# Altium footprint library Inductors.PcbLib: 50 footprints (part 3 of 4)
Each footprint in its own frame and in the unit in brackets; x right, y up, seen from the top. Pads: shape width x height; smd on the part's side, far side on the other; paste and mask are expansions set on the pad; w line width, h text height; cw(c..) or ccw(c..) is an arc to the next point about the centre after c.
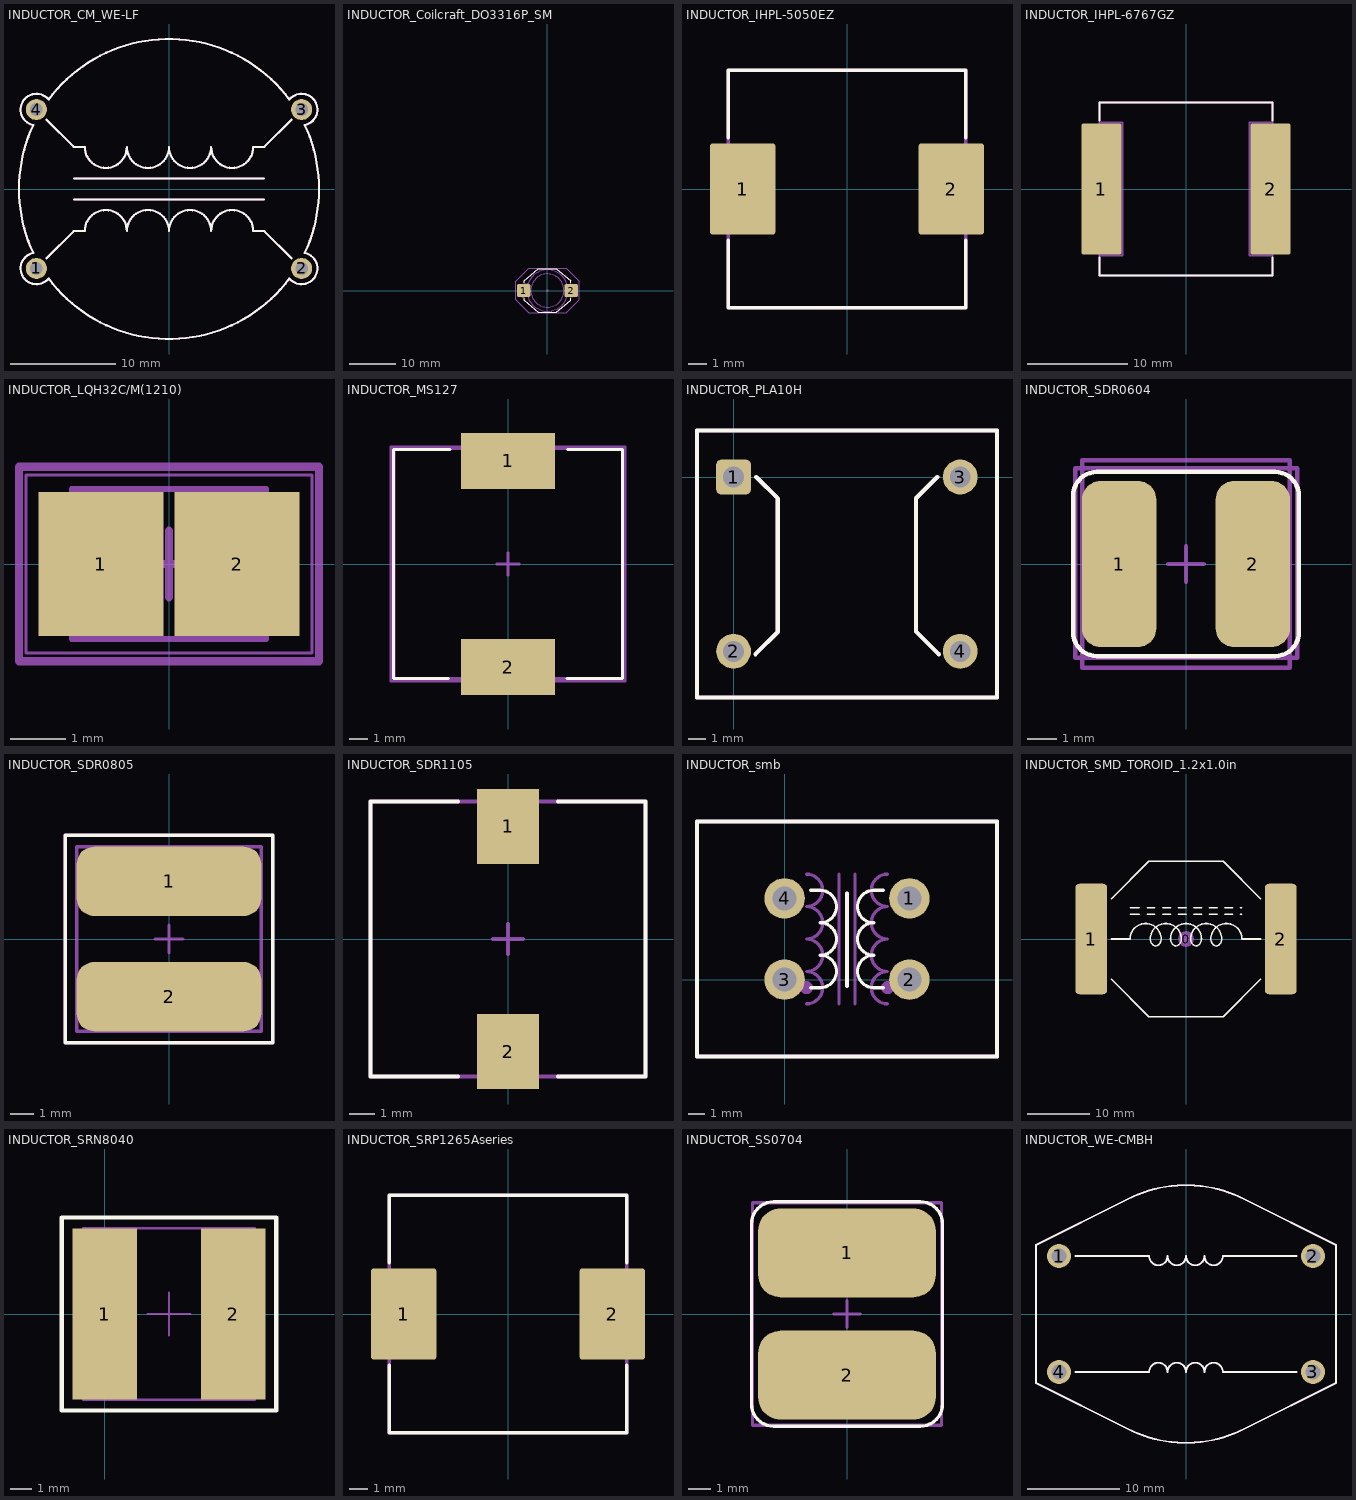
[diagram p2: the footprints below, top view; thin cyan lines are the x and y axes]

## INDUCTOR_CM_WE-LF [mm]
pads (4):
  round 2 hole 1.2: 1(-12.6,-7.55) 2(12.6,-7.55) 3(12.6,7.55) 4(-12.6,7.55)
Top Overlay:
  lines w0.2: -12.904,6.081 cw(c-12.6,7.55) -11.439,8.499 ; -12.891,-6.078 ccw(c-12.6,-7.55) -11.439,-8.499 ; -12.89,6.075 ccw(c0,0) -12.889,-6.078 ; -11.65,-6.6 -9.05,-4 -8,-4 cw(c-6,-4) -4,-4 cw(c-2,-4) 0,-4 cw(c2,-4) 4,-4 cw(c6,-4) 8,-4 9.05,-4 11.65,-6.6 ; -11.65,6.6 -9.05,4 -8,4 ccw(c-6,4) -4,4 ccw(c-2,4) 0,4 ccw(c2,4) 4,4 ccw(c6,4) 8,4 9.05,4 11.65,6.6 ; -11.437,-8.5 ccw(c0,0) 11.437,-8.5 ; -11.437,8.5 cw(c0,0) 11.439,8.498 ; -9,-1 9,-1 ; -9,1 9,1 ; 11.436,8.496 cw(c12.6,7.55) 12.884,6.077 ; 11.439,-8.499 ccw(c12.6,-7.55) 12.904,-6.081 ; 12.888,6.079 cw(c0,0) 12.89,-6.075
Mechanical 8:
  lines w0.2: -12.904,6.081 cw(c-12.6,7.55) -11.439,8.499 ; -12.891,-6.078 ccw(c-12.6,-7.55) -11.439,-8.499 ; -12.89,6.075 ccw(c0,0) -12.889,-6.078 ; -11.65,-6.6 -9.05,-4 -8,-4 cw(c-6,-4) -4,-4 cw(c-2,-4) 0,-4 cw(c2,-4) 4,-4 cw(c6,-4) 8,-4 9.05,-4 11.65,-6.6 ; -11.65,6.6 -9.05,4 -8,4 ccw(c-6,4) -4,4 ccw(c-2,4) 0,4 ccw(c2,4) 4,4 ccw(c6,4) 8,4 9.05,4 11.65,6.6 ; -11.437,-8.5 ccw(c0,0) 11.437,-8.5 ; -11.437,8.5 cw(c0,0) 11.439,8.498 ; -9,-1 9,-1 ; -9,1 9,1 ; 11.436,8.496 cw(c12.6,7.55) 12.884,6.077 ; 11.439,-8.499 ccw(c12.6,-7.55) 12.904,-6.081 ; 12.888,6.079 cw(c0,0) 12.89,-6.075
  text ".Designator" at -5,7 h5
3D body "commode_WE-LF_682LH.stp": height 17.1, standoff -2.9, extent -14.25,-14.25 14.25,14.25

## INDUCTOR_Coilcraft_DO3316P_SM [mil] "Wire-wound Power Inductor, 2-Leads, Body 12.95x9.4mm"
height 205
pads (3):
  round 20 on Mech15: 0(0,0)
  rrect25% 115x110 smd: 1(-202.5,0) 2(202.5,0)
Top Overlay:
  lines w6: -200,-65 -200,-82.84 -76.63,-185 76.63,-185 200,-82.84 200,-65 ; -200,65 -200,82.84 -76.63,185 76.63,185 200,82.84 200,65
Mechanical 13:
  drawing of 272 lines, arcs and shapes, not listed
Mechanical 15:
  lines w3: -270,-80 -270,80 -160,190 160,190 270,80 270,-80 160,-190 -160,-190 -270,-80
3D body "Pulse Inductor RR.STEP": height 172.5, standoff 0, extent -255.38,-185 255.2,185

## INDUCTOR_IHPL-5050EZ [mm]
pads (2):
  rrect10% 3.6x5 smd: 1(-5.7,0) 2(5.7,0)
Top Overlay:
  lines w0.2: -6.5,-2.8 -6.5,-6.5 6.5,-6.5 6.5,-2.8 ; -6.5,2.8 -6.5,6.5 6.5,6.5 6.5,2.8
Mechanical 8:
  lines w0.2: -6.5,-6.5 -6.5,6.5 6.5,6.5 6.5,-6.5 -6.5,-6.5
  text ".Designator" at 1.2,-5.65 h6
3D body: height 5, standoff 0.01, extent -6.5,-6.5 6.5,6.5

## INDUCTOR_IHPL-6767GZ [mm]
pads (2):
  rrect10% 4x13 smd: 1(-8.4,0) 2(8.4,0)
Top Overlay:
  lines w0.2: -8.6,-6.8 -8.6,-8.6 8.6,-8.6 8.6,-6.8 ; -8.6,6.8 -8.6,8.6 8.6,8.6 8.6,6.8
Mechanical 8:
  lines w0.2: -8.6,-6.6 -6.3,-6.6 -6.3,6.6 -8.6,6.6 ; 8.6,-6.6 6.3,-6.6 6.3,6.6 8.6,6.6 ; -8.6,-8.6 -8.6,8.6 8.6,8.6 8.6,-8.6 -8.6,-8.6
  text ".Designator" at -3.55,-0.95 h3.5
3D body: height 7, standoff 0.01, extent -8.6,-8.6 8.6,8.6

## INDUCTOR_LQH32C/M(1210) [mm] "LQH32C/M Series 1210 Case"
height 2.2
pads (2):
  rect 2.25x2.6 smd: 1(-1.225,0) 2(1.225,0)
Top Assembly:
  lines w0.1: -1.75,-1.35 -1.75,1.35 1.75,1.35 1.75,-1.35 -1.75,-1.35
Top Courtyard:
  lines w0.05: -2.575,-1.6 -2.575,1.6 2.575,1.6 2.575,-1.6 -2.575,-1.6
  lines w0.1: -0.5,0 0.5,0 ; 0,-0.5 0,0.5
Mechanical 15:
  lines w0.15: -0.6,0 0,0 ; 0,-0.6 0,0 ; 0,0.6 0,0 ; 0.6,0 0,0 ; -2.7,-1.75 2.7,-1.75 2.7,1.75 -2.7,1.75 -2.7,-1.75
3D body "User Library-LQH32PN_sw.STEP": height 1.55, standoff 0, extent -1.6,-1.25 1.6,1.25

## INDUCTOR_MS127 [mm]
height 7
pads (2):
  rect 5x3 smd: 1(0,5.5) 2(0,-5.5)
Top Overlay:
  lines w0.15: -3.175,-6.1 -6.1,-6.1 -6.1,6.1 -3.1,6.1 ; 3.15,-6.1 6.1,-6.1 6.1,6.1 3.175,6.1
Mechanical 15:
  lines w0.15: -0.6,0 0,0 ; 0,-0.6 0,0 ; 0,0.6 0,0 ; 0.6,0 0,0 ; -6.25,-6.25 -6.25,6.25 6.25,6.25 6.25,-6.25 -6.25,-6.25
Mechanical 29:
  lines w0.15: -6.075,-6.1 -6.075,6.15 6.1,6.15 6.1,-6.1 -6.075,-6.1
3D body "User Library-Inductor SRR1280 Series.STEP": height 7.51, standoff 0, extent -6.1,-6.2 6.1,6

## INDUCTOR_PLA10H [mm]
pads (4):
  rrect30% 2x2 hole 1.2: 1(0,0)
  round 2 hole 1.2: 2(0,-10) 3(13,0) 4(13,-10)
Top Overlay:
  lines w0.25: 1.26,-10.16 2.54,-8.88 2.54,-1.24 1.3,0 ; 11.68,0 10.46,-1.22 10.46,-8.86 11.76,-10.16 ; -2.1,-12.65 15.11,-12.65 15.11,2.67 -2.1,2.67 -2.1,-12.65
Mechanical 8:
  lines w0.25: 1.26,-10.16 2.54,-8.88 2.54,-1.24 1.3,0 ; 11.68,0 10.46,-1.22 10.46,-8.86 11.76,-10.16 ; -2.1,-12.65 -2.1,2.67 15.11,2.67 15.11,-12.65 -2.1,-12.65
  text ".Designator" at 7.2,-11.05 h3.5
3D body "PLA10.STEP": height 16.3, standoff -3.3, extent -1.885,-12.5 14.907,2.5

## INDUCTOR_SDR0604 [mm]
pads (2):
  rrect50% 2.5x5.6 smd: 1(-2.25,0) 2(2.25,0)
Top Overlay:
  lines w0.15: -3.8,-2.3 ccw(c-3,-2.3) -3,-3.1 3,-3.1 ccw(c3,-2.3) 3.8,-2.3 3.8,2.3 ccw(c3,2.3) 3,3.1 -3,3.1 ccw(c-3,2.3) -3.8,2.3 -3.8,-2.3
Mechanical 15:
  lines w0.15: -0.6,0 0,0 ; 0,-0.6 0,0 ; 0,0.6 0,0 ; 0.6,0 0,0 ; -3.5,-3.5 -3.5,3.5 3.5,3.5 3.5,-3.5 -3.5,-3.5
Mechanical 29:
  lines w0.15: -3.725,-3.15 -3.725,3.225 3.75,3.225 3.75,-3.15 -3.725,-3.15
3D body "User Library-SDR0604.STEP": height 4.55, standoff 0, extent -2.729,-2.825 2.779,2.775

## INDUCTOR_SDR0805 [mm]
height 5.5
pads (2):
  rrect50% 8x3 smd: 1(0,2.5) 2(0,-2.5)
Top Overlay:
  lines w0.15: -4.5,-4.5 4.5,-4.5 4.5,4.5 -4.5,4.5 -4.5,-4.5
Mechanical 15:
  lines w0.15: -0.6,0 0,0 ; 0,-0.6 0,0 ; 0,0.6 0,0 ; 0.6,0 0,0 ; -4.5,-4.5 -4.5,4.5 4.5,4.5 4.5,-4.5 -4.5,-4.5
Mechanical 29:
  lines w0.15: -4,-4 4,-4 4,4 -4,4 -4,-4
3D body "69564.stp": height 5.3, standoff 0, extent -3.9,-3.9 3.9,3.9

## INDUCTOR_SDR1105 [mm]
pads (2):
  rect 2.5x3 smd: 1(0,4.5) 2(0,-4.5)
Top Overlay:
  lines w0.15: -2,-5.5 -5.5,-5.5 -5.5,5.5 -2,5.5 ; 2,-5.5 5.5,-5.5 5.5,5.5 2,5.5
Mechanical 15:
  lines w0.15: -0.6,0 0,0 ; 0,-0.6 0,0 ; 0,0.6 0,0 ; 0.6,0 0,0 ; -5.5,-5.5 -5.5,5.5 5.5,5.5 5.5,-5.5 -5.5,-5.5
Mechanical 29:
  lines w0.15: -5.5,-5.5 -5.5,5.5 5.5,5.5 5.5,-5.5 -5.5,-5.5
3D body: height 1.5, standoff 0.5, extent -5,-4.998 5,4.999
3D body: height 5.3, standoff 0.5, extent -5,-4.998 5,4.999

## INDUCTOR_smb [mm]
pads (4):
  round 2.5 hole 1.5: 1(7.7,5) 2(7.7,0) 3(0,0) 4(0,5)
Top Overlay:
  lines w0.2: 1.6,-0.5 2.2,-0.5 ccw(c2.2,0.5) 2.2,1.5 ccw(c2.2,2.5) 2.2,3.5 ccw(c2.2,4.5) 2.2,5.5 1.6,5.5 ; 6.1,-0.5 5.5,-0.5 cw(c5.5,0.5) 5.5,1.5 cw(c5.5,2.5) 5.5,3.5 cw(c5.5,4.5) 5.5,5.5 6.1,5.5
  lines w0.254: 3.85,-0.4 3.85,5.3 ; -5.4,-4.75 13.1,-4.75 13.1,9.75 -5.4,9.75 -5.4,-4.75
Mechanical 8:
  circle w0.4: c1.35,-0.5 r0.2
  circle w0.4: c6.35,-0.5 r0.2
  lines w0.2: 1.35,-1.5 ccw(c1.35,-0.5) 1.35,0.5 ccw(c1.35,1.5) 1.35,2.5 ccw(c1.35,3.5) 1.35,4.5 ccw(c1.35,5.5) 1.35,6.5 ; 3.35,-1.5 3.35,6.5 ; 4.35,-1.5 4.35,6.5 ; 6.35,-1.5 cw(c6.35,-0.5) 6.35,0.5 cw(c6.35,1.5) 6.35,2.5 cw(c6.35,3.5) 6.35,4.5 cw(c6.35,5.5) 6.35,6.5
  lines w0.254: -5.4,-4.75 -5.4,9.75 13.1,9.75 13.1,-4.75 -5.4,-4.75
  text ".Designator" at 0.85,7.2 h4
3D body "commode_WE7448225007.stp": height 20, standoff -3.4, extent -4.002,-4 11.718,9

## INDUCTOR_SMD_TOROID_1.2x1.0in [mm] "Inductor, Toroid, 30.5mm L x 25.4mm W x 13.5mm T"
height 13.5
pads (3):
  round 2.54 on Mech15: 0(0,0)
  rrect25% 5.1x17.8 smd: 1(-15.25,0) 2(15.25,0)
Top Overlay:
  lines w0.254: -12,-6.5 -6,-12.5 6,-12.5 12,-6.5 ; -12,0 -9,0 cw(c-6.5,0) -4,0 cw(c-5.25,0) -4.691,-1.118 cw(c-4.875,0) -5.059,-1.118 cw(c-4.5,0) -5.75,0 cw(c-3.25,0) -0.75,0 cw(c-2,0) -1.441,-1.118 cw(c-1.625,0) -1.809,-1.118 cw(c-1.25,0) -2.5,0 cw(c0,0) 2.5,0 cw(c1.25,0) 1.809,-1.118 cw(c1.625,0) 1.441,-1.118 cw(c2,0) 0.75,0 cw(c3.25,0) 5.75,0 cw(c4.5,0) 5.059,-1.118 cw(c4.875,0) 4.691,-1.118 cw(c5.25,0) 4,0 cw(c6.5,0) 9,0 12,0 ; -12,6.5 -6,12.5 6,12.5 12,6.5 ; -9,4 -7.5,4 ; -9,5 -7.5,5 ; -6.25,4 -5,4 ; -6.25,5 -5,5 ; -3.75,4 -2.5,4 ; -3.75,5 -2.5,5 ; -1.25,4 0,4 ; -1.25,5 0,5 ; 1.25,4 2.5,4 ; 1.25,5 2.5,5 ; 3.75,4 5,4 ; 3.75,5 5,5 ; 6.25,4 7.5,4 ; 6.25,5 7.5,5 ; 8.75,4 9,4 ; 8.75,5 9,5
3D body: height 3.5, standoff 1.5, extent -17,-12.5 17,12.5
3D body: height 12, standoff 5, extent -10,-10 10,10

## INDUCTOR_SRN8040 [mm]
pads (2):
  rect 3x8 smd: 1(0,0) 2(6,0)
Top Overlay:
  lines w0.2: -2,-4.5 8,-4.5 8,4.5 -2,4.5 -2,-4.5
Mechanical 13:
  lines w0.1: -1.009,-4 7.009,-4 7.009,4 -1.009,4 -1.009,-4
Mechanical 15:
  lines w0.1: 2,0 4,0 ; 3,-1 3,1 ; -2,-4.5 8,-4.5 8,4.5 -2,4.5 -2,-4.5
3D body "User Library-Inductor SRN8040 Series.step": height 4, standoff 0, extent -1.009,-4 7.009,4

## INDUCTOR_SRP1265Aseries [mm]
pads (2):
  rrect10% 3.6x5 smd: 1(-5.7,0) 2(5.7,0)
Top Overlay:
  lines w0.2: -6.5,-2.8 -6.5,-6.5 6.5,-6.5 6.5,-2.8 ; -6.5,2.8 -6.5,6.5 6.5,6.5 6.5,2.8
Mechanical 8:
  lines w0.2: -6.5,-6.5 6.5,-6.5 6.5,6.5 -6.5,6.5 -6.5,-6.5
  text ".Designator" at 1.2,-5.65 h6
3D body: height 6.2, standoff 0.01, extent -6.5,-6.5 6.5,6.5

## INDUCTOR_SS0704 [mm]
pads (2):
  rrect50% 8x4 smd: 1(0,2.75) 2(0,-2.75)
Top Overlay:
  lines w0.15: -4.3,-4.05 ccw(c-3.3,-4.05) -3.3,-5.05 3.3,-5.05 ccw(c3.3,-4.05) 4.3,-4.05 4.3,4.05 ccw(c3.3,4.05) 3.3,5.05 -3.3,5.05 ccw(c-3.3,4.05) -4.3,4.05 -4.3,-4.05
Mechanical 15:
  lines w0.15: -0.6,0 0,0 ; 0,-0.6 0,0 ; 0,0.6 0,0 ; 0.6,0 0,0 ; -4.25,-5 -4.25,5 4.25,5 4.25,-5 -4.25,-5
3D body "SS0704.STEP": height 4, standoff 0, extent -3.775,-3.7 3.725,3.8

## INDUCTOR_WE-CMBH [mm]
pads (4):
  round 2.6 hole 1.6: 1(-13.8,6.3) 2(13.8,6.3) 3(13.8,-6.3) 4(-13.8,-6.3)
Top Overlay:
  lines w0.2: -12,-6.3 -4,-6.3 cw(c-3,-6.3) -2,-6.3 cw(c-1,-6.3) 0,-6.3 cw(c1,-6.3) 2,-6.3 cw(c3,-6.3) 4,-6.3 12,-6.3 ; -12,6.3 -4,6.3 ccw(c-3,6.3) -2,6.3 ccw(c-1,6.3) 0,6.3 ccw(c1,6.3) 2,6.3 ccw(c3,6.3) 4,6.3 12,6.3 ; -16.3,-7.5 -6.356,-12.474 ccw(c0,0) 6.356,-12.474 16.3,-7.5 16.3,0 16.3,7.5 6.356,12.474 ccw(c0,0) -6.356,12.474 -16.3,7.5 -16.3,0 -16.3,-7.5
Mechanical 8:
  lines w0.2: -12,-6.3 -4,-6.3 cw(c-3,-6.3) -2,-6.3 cw(c-1,-6.3) 0,-6.3 cw(c1,-6.3) 2,-6.3 cw(c3,-6.3) 4,-6.3 12,-6.3 ; -12,6.3 -4,6.3 ccw(c-3,6.3) -2,6.3 ccw(c-1,6.3) 0,6.3 ccw(c1,6.3) 2,6.3 ccw(c3,6.3) 4,6.3 12,6.3 ; -16.3,-7.5 -16.3,0 -16.3,7.5 -6.356,12.474 cw(c0,0) 6.356,12.474 16.3,7.5 16.3,0 16.3,-7.5 6.356,-12.474 cw(c0,0) -6.356,-12.474 -16.3,-7.5
  text ".Designator" at -5.35,-0.8 h3.5
3D body: height 1.5, standoff 0.01, extent -16.3,-14 16.3,14
3D body: height 18, standoff 0, extent -11.905,-11.976 12,11.976